# Altium footprint library WreckerCar_PcbLib.PcbLib: 65 footprints (part 3 of 5)
Each footprint in its own frame and in the unit in brackets; x right, y up, seen from the top. Pads: shape width x height; smd on the part's side, far side on the other; paste and mask are expansions set on the pad; w line width, h text height; cw(c..) or ccw(c..) is an arc to the next point about the centre after c.
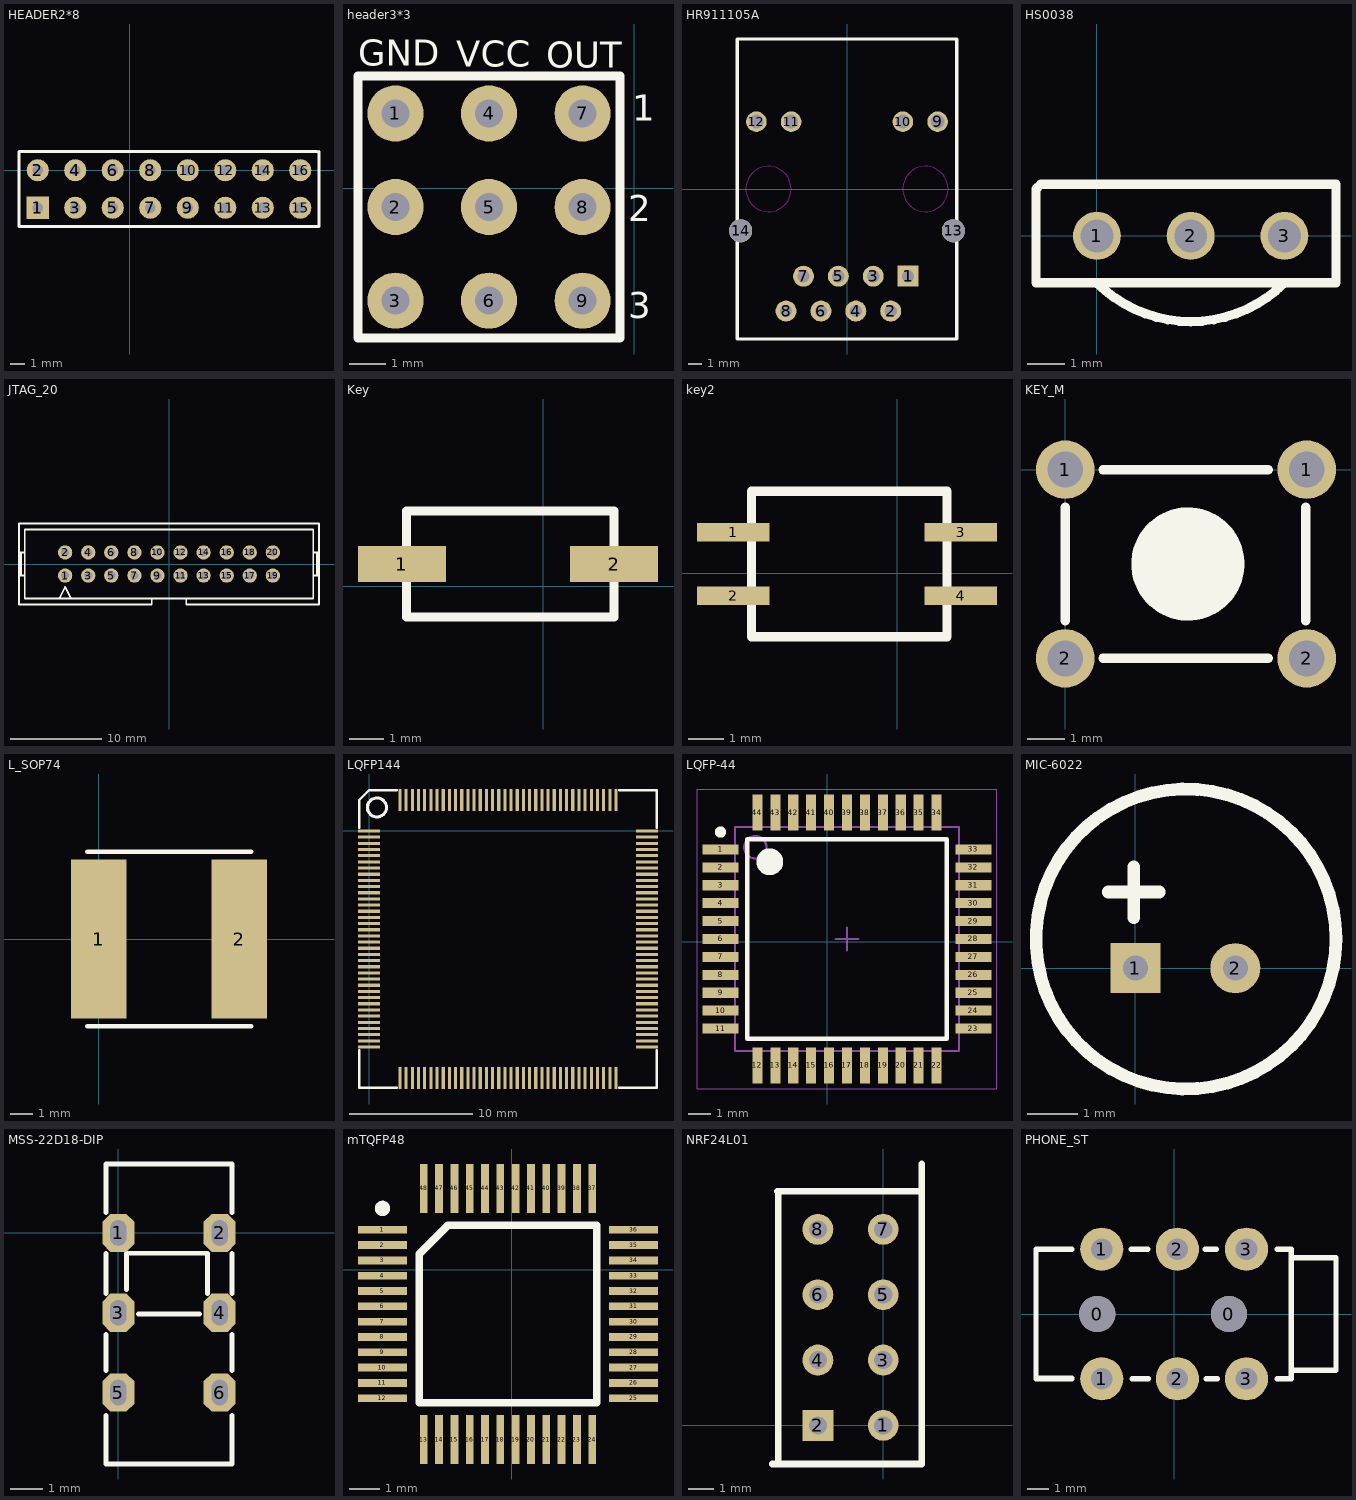
[diagram p2: the footprints below, top view; thin cyan lines are the x and y axes]

## HEADER2*8 [mm]
pads (16):
  rect 1.5x1.5 hole 0.7: 1(-6.223,-2.54)
  round 1.5 hole 0.7: 2(-6.223,0) 3(-3.683,-2.54) 4(-3.683,0) 5(-1.143,-2.54) 6(-1.143,0) 7(1.397,-2.54) 8(1.397,0) 9(3.937,-2.54) 10(3.937,0) 11(6.477,-2.54) 12(6.477,0) 13(9.017,-2.54) 14(9.017,0) 15(11.557,-2.54) 16(11.557,0)
Top Overlay:
  lines w0.2: 12.7,1.27 -7.493,1.27 -7.493,-3.81 12.827,-3.81 12.827,-2.54 12.827,0 12.827,1.27

## header3*3 [mil]
pads (9):
  round 60 hole 30: 1(-255,80) 2(-255,-20) 3(-255,-120) 4(-155,80) 5(-155,-20) 6(-155,-120) 7(-55,80) 8(-55,-20) 9(-55,-120)
Top Overlay:
  lines w10: -295,-160 -295,120 -15,120 -15,-160 -295,-160
  text "3" at -6,-139 h27.56
  text "2" at -6,-35 h27.56
  text "1" at -2,72 h27.56
  text "OUT" at -94,129 h27.56
  text "GND" at -295,131 h27.56
  text "VCC" at -190,130 h27.56

## HR911105A [mm]
pads (14):
  rect 1.524x1.524 hole 0.889: 1(4.45,-6.35)
  round 1.524 hole 0.889: 2(3.18,-8.89) 3(1.91,-6.35) 4(0.64,-8.89) 5(-0.63,-6.35) 6(-1.9,-8.89) 7(-3.17,-6.35) 8(-4.44,-8.89)
  round 1.5 hole 1.02: 9(6.6,4.9) 10(4.064,4.9) 11(-4.064,4.9) 12(-6.6,4.9)
  round 1.7 hole 1.65: 13(7.75,-3.048) 14(-7.75,-3.048)
Top Overlay:
  lines w0.254: -8,-10.922 -8,10.922 0,10.922 8,10.922 8,-10.922 0,-10.922 -8,-10.922
Keep-Out Layer:
  circle w0.051: c-5.714,0 r1.65
  circle w0.051: c5.716,0 r1.65

## HS0038 [mm]
pads (3):
  round 1.3 hole 0.889: 1(0,0) 2(2.54,0) 3(5.08,0)
Top Overlay:
  lines w0.254: 0,-1.27 ccw(c2.54,1.27) 5.08,-1.27 ; -1.651,-1.27 -1.651,1.27 -1.524,1.397 6.477,1.397 6.477,-1.27 -1.651,-1.27

## JTAG_20 [mil]
pads (20):
  round 62 hole 35: 1(-450,-50) 2(-450,50) 3(-350,-50) 4(-350,50) 5(-250,-50) 6(-250,50) 7(-150,-50) 8(-150,50) 9(-50,-50) 10(-50,50) 11(50,-50) 12(50,50) 13(150,-50) 14(150,50) 15(250,-50) 16(250,50) 17(350,-50) 18(350,50) 19(450,-50) 20(450,50)
Top Overlay:
  lines w8: -650,-50 -625,-50 ; -650,50 -625,50 ; -641.67,-50 -641.67,50 ; -475,-150 -450,-100 -425,-150 ; -339.57,-175 -75,-175 -75,-150 ; -325,-175 -650,-175 -650,175 650,175 650,-175 325,-175 75,-175 75,-150 ; 625,-50 650,-50 ; 625,50 650,50 ; 641.67,-50 641.67,50 ; -75,-150 -625,-150 -625,150 625,150 625,-150 75,-150 ; -75,-150 75,-150

## Key [mil]
pads (2):
  rect 99.37x40.31 smd: 1(-160,25) 2(80,25)
Top Overlay:
  lines w10: -155,-35 80,-35 80,85 -155,85 -155,-35

## key2 [mil]
pads (4):
  rect 79.69x20.63 smd: 1(-180,45) 2(-180,-25) 3(70,45) 4(70,-25)
Top Overlay:
  lines w10: -160,-70 -160,90 55,90 55,30 55,-10 55,-70 -160,-70

## KEY_M [mil]
pads (4):
  round 62 hole 38: 1(0,0) 1(255.91,0) 2(0,-200) 2(255.91,-200)
Top Overlay:
  circle w60: c130,-100 r30
  lines w10: -0.03,-160 -0.03,-40 ; 39.97,-200 215,-200 ; 39.97,0 215,0 ; 255,-160 255,-40

## L_SOP74 [mm]
pads (2):
  rect 2.5x7.2 smd: 1(0,0) 2(6.35,0)
Top Overlay:
  lines w0.203: -0.508,-3.937 6.892,-3.937 ; -0.508,3.937 6.892,3.937

## LQFP144 [mm]
pads (144):
  rect 1.8x0.254 smd: 1(-0.009,0.001) 2(-0.009,-0.499) 3(-0.009,-0.999) 4(-0.009,-1.499) 5(-0.009,-1.999) 6(-0.009,-2.499) 7(-0.009,-2.999) 8(-0.009,-3.499) 9(-0.009,-3.999) 10(-0.009,-4.499) 11(-0.009,-4.999) 12(-0.009,-5.499) 13(-0.009,-5.999) 14(-0.009,-6.499) 15(-0.009,-6.999) 16(-0.009,-7.499) 17(-0.009,-7.999) 18(-0.009,-8.499) 19(-0.009,-8.999) 20(-0.009,-9.499) 21(-0.009,-9.999) 22(-0.009,-10.499) 23(-0.009,-10.999) 24(-0.009,-11.499) 25(-0.009,-11.999) 26(-0.009,-12.499) 27(-0.009,-12.999) 28(-0.009,-13.499) 29(-0.009,-13.999) 30(-0.009,-14.499) 31(-0.009,-14.999) 32(-0.009,-15.499) 33(-0.009,-15.999) 34(-0.009,-16.499) 35(-0.009,-16.999) 36(-0.009,-17.499) 73(22.491,-17.499) 74(22.491,-16.999) 75(22.491,-16.499) 76(22.491,-15.999) 77(22.491,-15.499) 78(22.491,-14.999) 79(22.491,-14.499) 80(22.491,-13.999) 81(22.491,-13.499) 82(22.491,-12.999) 83(22.491,-12.499) 84(22.491,-11.999) 85(22.491,-11.499) 86(22.491,-10.999) 87(22.491,-10.499) 88(22.491,-9.999) 89(22.491,-9.499) 90(22.491,-8.999) 91(22.491,-8.499) 92(22.491,-7.999) 93(22.491,-7.499) 94(22.491,-6.999) 95(22.491,-6.499) 96(22.491,-5.999) 97(22.491,-5.499) 98(22.491,-4.999) 99(22.491,-4.499) 100(22.491,-3.999) 101(22.491,-3.499) 102(22.491,-2.999) 103(22.491,-2.499) 104(22.491,-1.999) 105(22.491,-1.499) 106(22.491,-0.999) 107(22.491,-0.499) 108(22.491,0.001)
  rect 0.254x1.8 smd: 37(2.491,-19.999) 38(2.991,-19.999) 39(3.491,-19.999) 40(3.991,-19.999) 41(4.491,-19.999) 42(4.991,-19.999) 43(5.491,-19.999) 44(5.991,-19.999) 45(6.491,-19.999) 46(6.991,-19.999) 47(7.491,-19.999) 48(7.991,-19.999) 49(8.491,-19.999) 50(8.991,-19.999) 51(9.491,-19.999) 52(9.991,-19.999) 53(10.491,-19.999) 54(10.991,-19.999) 55(11.491,-19.999) 56(11.991,-19.999) 57(12.491,-19.999) 58(12.991,-19.999) 59(13.491,-19.999) 60(13.991,-19.999) 61(14.491,-19.999) 62(14.991,-19.999) 63(15.491,-19.999) 64(15.991,-19.999) 65(16.491,-19.999) 66(16.991,-19.999) 67(17.491,-19.999) 68(17.991,-19.999) 69(18.491,-19.999) 70(18.991,-19.999) 71(19.491,-19.999) 72(19.991,-19.999) 109(19.991,2.501) 110(19.491,2.501) 111(18.991,2.501) 112(18.491,2.501) 113(17.991,2.501) 114(17.491,2.501) 115(16.991,2.501) 116(16.491,2.501) 117(15.991,2.501) 118(15.491,2.501) 119(14.991,2.501) 120(14.491,2.501) 121(13.991,2.501) 122(13.491,2.501) 123(12.991,2.501) 124(12.491,2.501) 125(11.991,2.501) 126(11.491,2.501) 127(10.991,2.501) 128(10.491,2.501) 129(9.991,2.501) 130(9.491,2.501) 131(8.991,2.501) 132(8.491,2.501) 133(7.991,2.501) 134(7.491,2.501) 135(6.991,2.501) 136(6.491,2.501) 137(5.991,2.501) 138(5.491,2.501) 139(4.991,2.501) 140(4.491,2.501) 141(3.991,2.501) 142(3.491,2.501) 143(2.991,2.501) 144(2.491,2.501)
Top Overlay:
  circle w0.254: c0.624,1.905 r0.773
  lines w0.2: -0.809,-17.749 -0.809,-20.799 2.241,-20.799 ; -0.809,0.251 -0.809,2.501 -0.009,3.301 2.241,3.301 ; 20.241,-20.799 23.291,-20.799 23.291,-17.749 ; 20.241,3.301 23.291,3.301 23.291,0.251

## LQFP-44 [mm]
pads (44):
  rect 1.6x0.45 smd: 1(-4.761,4.127) 2(-4.761,3.327) 3(-4.761,2.527) 4(-4.761,1.727) 5(-4.761,0.927) 6(-4.761,0.127) 7(-4.761,-0.673) 8(-4.761,-1.473) 9(-4.761,-2.273) 10(-4.761,-3.073) 11(-4.761,-3.873) 23(6.539,-3.873) 24(6.539,-3.073) 25(6.539,-2.273) 26(6.539,-1.473) 27(6.539,-0.673) 28(6.539,0.127) 29(6.539,0.927) 30(6.539,1.727) 31(6.539,2.527) 32(6.539,3.327) 33(6.539,4.127)
  rect 0.45x1.6 smd: 12(-3.111,-5.523) 13(-2.311,-5.523) 14(-1.511,-5.523) 15(-0.711,-5.523) 16(0.089,-5.523) 17(0.889,-5.523) 18(1.689,-5.523) 19(2.489,-5.523) 20(3.289,-5.523) 21(4.089,-5.523) 22(4.889,-5.523) 34(4.889,5.777) 35(4.089,5.777) 36(3.289,5.777) 37(2.489,5.777) 38(1.689,5.777) 39(0.889,5.777) 40(0.089,5.777) 41(-0.711,5.777) 42(-1.511,5.777) 43(-2.311,5.777) 44(-3.111,5.777)
Top Overlay:
  circle w0.6: c-2.561,3.577 r0.3
  circle w0.25: c-4.761,4.902 r0.125
  lines w0.2: -3.561,-4.323 5.339,-4.323 5.339,4.577 -3.561,4.577 -3.561,-4.323
Mechanical 13:
  circle w0.1: c-3.211,4.227 r0.5
  lines w0.1: -4.111,-4.873 5.889,-4.873 5.889,5.127 -4.111,5.127 -4.111,-4.873
Mechanical 15:
  lines w0.05: -5.811,-6.573 7.589,-6.573 7.589,6.827 -5.811,6.827 -5.811,-6.573
  lines w0.1: 0.389,0.127 1.389,0.127 ; 0.889,-0.373 0.889,0.627
3D body: height 1.6, standoff 0.05, extent -4.111,-4.873 5.889,5.127

## MIC-6022 [mm]
pads (2):
  rect 1x1 hole 0.5: 1(0,0)
  round 1 hole 0.5: 2(2,0)
Top Overlay:
  circle w0.254: c1.013,0.584 r3
  lines w0.254: -0.54,1.524 0.476,1.524 ; -0.032,1.016 -0.032,2.032

## MSS-22D18-DIP [mm]
pads (6):
  oct 1x1.2 hole 0.5 slot 0.8 at 90 deg: 1(0,0) 2(3.175,0) 3(0,-2.5) 4(3.175,-2.5) 5(0,-5) 6(3.175,-5)
Top Overlay:
  lines w0.152: -0.381,-5.715 -0.381,-7.239 3.556,-7.239 3.556,-5.715 ; -0.381,-4.318 -0.381,-3.175 ; -0.381,-1.905 -0.381,-0.635 ; -0.381,0 -0.016,0 ; -0.381,0.635 -0.381,2.159 3.556,2.159 3.556,0.635 ; 0.254,-1.778 0.254,-0.635 2.794,-0.635 2.794,-1.905 ; 0.635,-2.54 2.54,-2.54 ; 3.556,-4.318 3.556,-3.175 ; 3.556,-1.905 3.556,-0.635

## mTQFP48 [mm]
pads (48):
  rect 1.6x0.254 smd: 1(-4.223,1.3) 2(-4.223,0.8) 3(-4.223,0.3) 4(-4.223,-0.2) 5(-4.223,-0.7) 6(-4.223,-1.2) 7(-4.223,-1.7) 8(-4.223,-2.2) 9(-4.223,-2.7) 10(-4.223,-3.2) 11(-4.223,-3.7) 12(-4.223,-4.2) 25(3.977,-4.2) 26(3.977,-3.7) 27(3.977,-3.2) 28(3.977,-2.7) 29(3.977,-2.2) 30(3.977,-1.7) 31(3.977,-1.2) 32(3.977,-0.7) 33(3.977,-0.2) 34(3.977,0.3) 35(3.977,0.8) 36(3.977,1.3)
  rect 0.254x1.6 smd: 13(-2.873,-5.55) 14(-2.373,-5.55) 15(-1.873,-5.55) 16(-1.373,-5.55) 17(-0.873,-5.55) 18(-0.373,-5.55) 19(0.127,-5.55) 20(0.627,-5.55) 21(1.127,-5.55) 22(1.627,-5.55) 23(2.127,-5.55) 24(2.627,-5.55) 37(2.627,2.65) 38(2.127,2.65) 39(1.627,2.65) 40(1.127,2.65) 41(0.627,2.65) 42(0.127,2.65) 43(-0.373,2.65) 44(-0.873,2.65) 45(-1.373,2.65) 46(-1.873,2.65) 47(-2.373,2.65) 48(-2.873,2.65)
Top Overlay:
  circle w0.25: c-4.223,2 r0.125
  lines w0.2: -3.023,-4.35 2.777,-4.35 2.777,1.45
  lines w0.254: -3.023,0.508 -2.081,1.45 ; -3.023,0.508 -3.023,-4.35 2.777,-4.35 2.777,1.45 -1.397,1.45 -2.081,1.45 ; -3.023,0.508 -2.081,1.45

## NRF24L01 [mm]
pads (8):
  round 1.2 hole 0.7: 1(0,0) 3(0,2.54) 4(-2.54,2.54) 5(0,5.08) 6(-2.54,5.08) 7(0,7.62) 8(-2.54,7.62)
  rect 1.2x1.2 hole 0.7: 2(-2.54,0)
Top Overlay:
  lines w0.254: -4.318,-1.5 1.5,-1.5 1.5,10.16 ; -4.089,-1.5 -4.089,9.068 -4.115,9.093 1.5,9.093

## PHONE_ST [mm]
pads (8):
  round 1.676 hole 1.676: 0(-3.556,0) 0(2.54,0)
  round 2 hole 1: 1(-3.35,-3) 1(-3.35,3) 2(0.15,-3) 2(0.15,3) 3(3.35,-3) 3(3.35,3)
Top Overlay:
  lines w0.254: -6.393,-2.969 -4.742,-2.969 ; -4.742,-3.007 -6.393,-3.007 -6.393,3 -4.742,3 ; -1.986,3 -1.224,3 ; -1.948,-3.007 -1.186,-3.007 ; 1.443,3 1.951,3 ; 1.481,-3.007 1.989,-3.007 ; 4.783,-3.007 5.33,-3.007 ; 4.783,3 5.418,3 5.418,-3.007 ; 5.418,-2.6 7.493,-2.6 7.493,2.6 5.418,2.6